# Altium footprint library PCB_Library_V№6.PcbLib: 8 footprints
Each footprint in its own frame and in the unit in brackets; x right, y up, seen from the top. Pads: shape width x height; smd on the part's side, far side on the other; paste and mask are expansions set on the pad; w line width, h text height; cw(c..) or ccw(c..) is an arc to the next point about the centre after c.
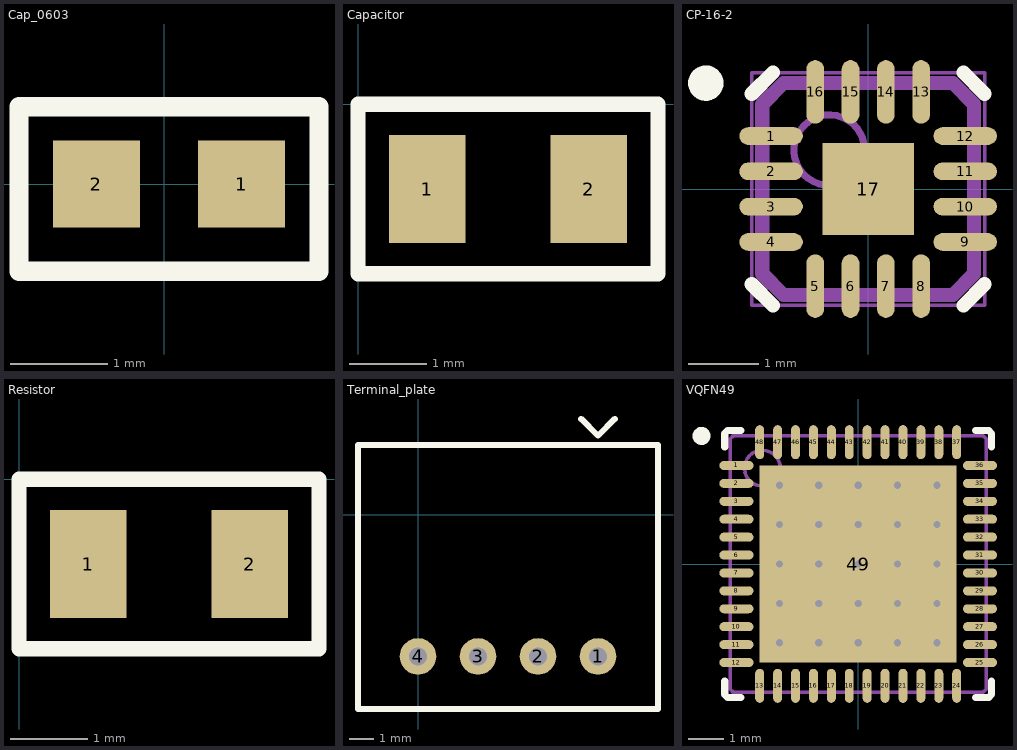
[diagram p0: the footprints below, top view; thin cyan lines are the x and y axes]

## Cap_0603 [mm]
height 1
pads (2):
  rect 0.9x0.9 smd: 1(0.8,0) 2(-0.7,0)
Top Overlay:
  lines w0.2: -1.5,-0.9 1.6,-0.9 1.6,0.8 -1.5,0.8 -1.5,-0.9

## Capacitor [mm] "C?"
height 1
pads (2):
  rect 1x1.4 smd: 1(0.9,-1.1) 2(3,-1.1)
Top Overlay:
  lines w0.2: 0,-2.2 0,0 3.9,0 3.9,-2.2 0,-2.2

## CP-16-2 [mm] "QFN, 16-Leads, Body 3,00x3,00mm, Pitch 0,50mm, Thermal Pad 1,30x1,30mm, IPC Medium Density"
height 1
pads (17):
  oval 0.9x0.25 smd: 1(-1.375,0.75) 2(-1.375,0.25) 3(-1.375,-0.25) 4(-1.375,-0.75) 9(1.375,-0.75) 10(1.375,-0.25) 11(1.375,0.25) 12(1.375,0.75)
  oval 0.25x0.9 smd: 5(-0.75,-1.375) 6(-0.25,-1.375) 7(0.25,-1.375) 8(0.75,-1.375) 13(0.75,1.375) 14(0.25,1.375) 15(-0.25,1.375) 16(-0.75,1.375)
  rect 1.3x1.3 smd: 17(0,0)
Top Overlay:
  circle w0.25: c-2.3,1.5 r0.125
  lines w0.2: -1.65,-1.35 -1.35,-1.65 ; -1.65,1.35 -1.35,1.65 ; 1.35,-1.65 1.65,-1.35 ; 1.35,1.65 1.65,1.35
Mechanical 13:
  circle w0.1: c-0.55,0.55 r0.5
  lines w0.2: -1.5,-1.2 -1.5,1.2 -1.2,1.5 1.2,1.5 1.5,1.2 1.5,-1.2 1.2,-1.5 -1.2,-1.5 -1.5,-1.2
Mechanical 15:
  lines w0.05: -1.65,-1.65 1.65,-1.65 1.65,1.65 -1.65,1.65 -1.65,-1.65
  lines w0.1: -0.5,0 0.5,0 ; 0,-0.5 0,0.5
3D body: height 1, standoff 0.02, extent -1.5,-1.5 1.5,1.5

## PCBComponent_1 [mm]

## PCBComponent_1 - duplicate [mm]

## Resistor [mm] "R?"
height 1
pads (2):
  rect 1x1.4 smd: 1(0.9,-1.1) 2(3,-1.1)
Top Overlay:
  lines w0.2: 0,-2.2 0,0 3.9,0 3.9,-2.2 0,-2.2

## Terminal_plate [mil]
height 39.37
pads (4):
  round 60 hole 30: 1(295.28,-232.28) 2(196.85,-232.28) 3(98.43,-232.28) 4(0,-232.28)
Top Overlay:
  lines w10: 267.72,157.48 295.28,129.92 322.83,157.48 ; -98.43,-318.9 -98.43,0 -98.43,114.17 393.7,114.17 393.7,-318.9 -98.43,-318.9

## VQFN49 [mm] "QFN, 48-Leads, Body 7,00x7,00mm, Pitch 0,50mm, Thermal Pad 5,50x5,50mm, IPC Medium Density"
height 1
pads (49):
  oval 0.95x0.25 smd: 1(-3.4,2.75) 2(-3.4,2.25) 3(-3.4,1.75) 4(-3.4,1.25) 5(-3.4,0.75) 6(-3.4,0.25) 7(-3.4,-0.25) 8(-3.4,-0.75) 9(-3.4,-1.25) 10(-3.4,-1.75) 11(-3.4,-2.25) 12(-3.4,-2.75) 25(3.4,-2.75) 26(3.4,-2.25) 27(3.4,-1.75) 28(3.4,-1.25) 29(3.4,-0.75) 30(3.4,-0.25) 31(3.4,0.25) 32(3.4,0.75) 33(3.4,1.25) 34(3.4,1.75) 35(3.4,2.25) 36(3.4,2.75)
  oval 0.25x0.95 smd: 13(-2.75,-3.4) 14(-2.25,-3.4) 15(-1.75,-3.4) 16(-1.25,-3.4) 17(-0.75,-3.4) 18(-0.25,-3.4) 19(0.25,-3.4) 20(0.75,-3.4) 21(1.25,-3.4) 22(1.75,-3.4) 23(2.25,-3.4) 24(2.75,-3.4) 37(2.75,3.4) 38(2.25,3.4) 39(1.75,3.4) 40(1.25,3.4) 41(0.75,3.4) 42(0.25,3.4) 43(-0.25,3.4) 44(-0.75,3.4) 45(-1.25,3.4) 46(-1.75,3.4) 47(-2.25,3.4) 48(-2.75,3.4)
  rect 5.5x5.5 smd: 49(0,0)
via -2.2,2.2 diameter 0.5 hole 0.2
via -1.1,2.2 diameter 0.5 hole 0.2
via 0,2.2 diameter 0.5 hole 0.2
via 1.1,2.2 diameter 0.5 hole 0.2
via 2.2,2.2 diameter 0.5 hole 0.2
via -2.2,1.1 diameter 0.5 hole 0.2
via -1.1,1.1 diameter 0.5 hole 0.2
via 0,1.1 diameter 0.5 hole 0.2
via 1.1,1.1 diameter 0.5 hole 0.2
via 2.2,1.1 diameter 0.5 hole 0.2
via -2.2,0 diameter 0.5 hole 0.2
via -1.1,0 diameter 0.5 hole 0.2
via 0,0 diameter 0.5 hole 0.2
via 1.1,0 diameter 0.5 hole 0.2
via 2.2,0 diameter 0.5 hole 0.2
via -2.2,-1.1 diameter 0.5 hole 0.2
via -1.1,-1.1 diameter 0.5 hole 0.2
via 0,-1.1 diameter 0.5 hole 0.2
via 1.1,-1.1 diameter 0.5 hole 0.2
via 2.2,-1.1 diameter 0.5 hole 0.2
via -2.2,-2.2 diameter 0.5 hole 0.2
via -1.1,-2.2 diameter 0.5 hole 0.2
via 0,-2.2 diameter 0.5 hole 0.2
via 1.1,-2.2 diameter 0.5 hole 0.2
via 2.2,-2.2 diameter 0.5 hole 0.2
Top Overlay:
  circle w0.25: c-4.375,3.575 r0.125
  lines w0.2: -3.725,-3.275 -3.725,-3.645 -3.645,-3.725 -3.275,-3.725 ; -3.725,3.275 -3.725,3.645 -3.645,3.725 -3.275,3.725 ; 3.275,-3.725 3.645,-3.725 3.725,-3.645 3.725,-3.275 ; 3.275,3.725 3.645,3.725 3.725,3.645 3.725,3.275
Mechanical 13:
  circle w0.1: c-2.675,2.675 r0.5
  lines w0.1: -3.575,-3.495 -3.495,-3.575 3.495,-3.575 3.575,-3.495 3.575,3.495 3.495,3.575 -3.495,3.575 -3.575,3.495 -3.575,-3.495
3D body: height 1, standoff 0.05, extent -3.575,-3.575 3.575,3.575